# Altium schematic symbol library RFID_SchLib.SchLib: 30 symbols
Pins are listed as number, name and electrical type; pins without a type are passive.

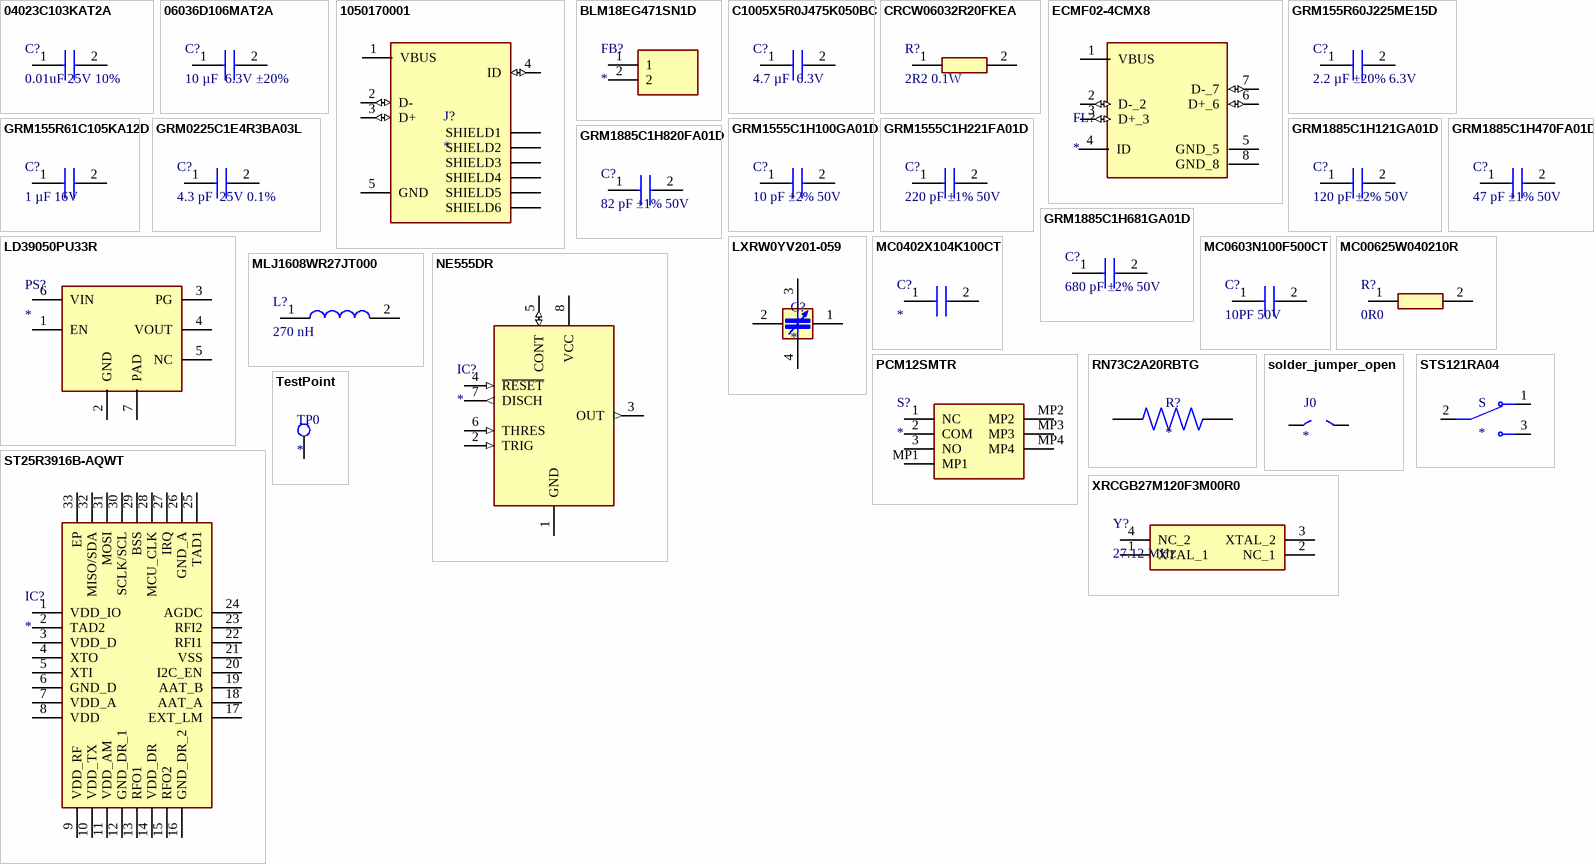
[diagram p0: symbols 04023C103KAT2A to XRCGB27M120F3M00R0]

## 04023C103KAT2A
designator C?, comment 0.01uF 25V 10%
Multilayer Ceramic Capacitors MLCC - SMD/SMT KGM05AR71E103KH NEW GLOBAL PN 25V 0.01uF A 581-KGM05AR71E103KH; Manufacturer_Name: Kyocera AVX; Manufacturer_Part_Number: 04023C103KAT2A; Datasheet Link: http://www.mouser.com/catalog/supplier/library/pdf/AVXSurfaceMountCeramic.pdf; Height: 0.56mm; Mouser Part Number: 581-04023C103KAT2A; Mouser Price/Stock: https://www.mouser.co.uk/ProductDetail/KYOCERA-AVX/04023C103KAT2A?qs=WqWZ2R3c%2Ff%2Fj0R0hKkmxig%3D%3D; Arrow Part Number: 04023C103KAT2A; Arrow Price/Stock: https://www.arrow.com/en/products/04023c103kat2a/avx?region=nac
footprint CAPC1005X56N
pins: 1, 2

## 06036D106MAT2A
designator C?, comment 10 µF  6.3V ±20%
10 µF ±20% 6.3V Ceramic Capacitor X5R 0603 (1608 Metric); Manufacturer_Name: Kyocera AVX; Manufacturer_Part_Number: 06036D106MAT2A; Datasheet Link: https://componentsearchengine.com/Datasheets/1/06031A100FAT2A.pdf; Height: 0.9mm; Mouser Part Number: 581-06036D106MAT2A; Mouser Price/Stock: https://www.mouser.co.uk/ProductDetail/KYOCERA-AVX/06036D106MAT2A?qs=SnLCPPi%2FUkQWQ97wPZ%2F8XA%3D%3D; Arrow Part Number: 06036D106MAT2A; Arrow Price/Stock: https://www.arrow.com/en/products/06036d106mat2a/avx?region=nac
footprint CAPC1608X90N
pins: 1, 2

## 1050170001
designator J?
USB - micro B USB 2.0 Receptacle Connector 5 Position Surface Mount, Right Angle; Through Hole; MF: Molex; MP: 1050170001; SnapEDA_Link: https://www.snapeda.com/parts/1050170001/Molex/view-part/?ref=snap; Package: None; Value: *; Check_prices: https://www.snapeda.com/parts/1050170001/Molex/view-part/?ref=eda
footprint MOLEX_1050170001
pins: 1 VBUS (power), 2 D- (io), 3 D+ (io), 4 ID (io), 5 GND (power), SH1 SHIELD1, SH2 SHIELD2, SH3 SHIELD3, SH4 SHIELD4, SH5 SHIELD5, SH6 SHIELD6

## BLM18EG471SN1D
designator FB?
Ferrite Bead; Manufacturer_Name: Murata Electronics; Manufacturer_Part_Number: BLM18EG471SN1D; Datasheet Link: http://www.murata.com/~/media/webrenewal/support/library/catalog/products/emc/emifil/c31e.ashx?la=en-gb; Height: 0.95mm; Mouser Part Number: 81-BLM18EG471SN1D; Mouser Price/Stock: https://www.mouser.co.uk/ProductDetail/Murata-Electronics/BLM18EG471SN1D?qs=8BCRtFWWXORfSKN8qJ8lTg%3D%3D; Arrow Part Number: BLM18EG471SN1D; Arrow Price/Stock: https://www.arrow.com/en/products/blm18eg471sn1d/murata-manufacturing?region=nac
footprint BLM18SP221SN1B
footprint Model Name (Model Description)
pins: 1, 2

## C1005X5R0J475K050BC
designator C?, comment 4.7 µF  6.3V
4.7 µF ±10% 6.3V Ceramic Capacitor X5R 0402 (1005 Metric); Manufacturer_Name: TDK; Manufacturer_Part_Number: C1005X5R0J475K050BC; Datasheet Link: https://product.tdk.com/info/en/catalog/datasheets/mlcc_commercial_midvoltage_en.pdf; Height: 0.55mm; Mouser Part Number: 810-C1005X5R0J475K; Mouser Price/Stock: https://www.mouser.co.uk/ProductDetail/TDK/C1005X5R0J475K050BC?qs=NRhsANhppD%2FrOmlfBttPRA%3D%3D; Arrow Part Number: C1005X5R0J475K050BC; Arrow Price/Stock: https://www.arrow.com/en/products/c1005x5r0j475k050bc/tdk?region=nac
footprint CAPC1005X55N
pins: 1, 2

## CRCW06032R20FKEA
designator R?, comment 2R2 0.1W
2.2 Ohms ±1% 0.1W, 1/10W Chip Resistor 0603 (1608 Metric) Automotive AEC-Q200 Thick Film; Manufacturer_Name: Vishay; Manufacturer_Part_Number: CRCW06032R20FKEA; Datasheet Link: http://www.vishay.com/docs/20035/dcrcwe3.pdf; Height: 0.5mm; Mouser Part Number: 71-CRCW0603-2.2-E3; Mouser Price/Stock: https://www.mouser.co.uk/ProductDetail/Vishay-Dale/CRCW06032R20FKEA?qs=rWmqDOB7XyjYuLjFkhSPbQ%3D%3D; Arrow Part Number: CRCW06032R20FKEA; Arrow Price/Stock: https://www.arrow.com/en/products/crcw06032r20fkea/vishay
footprint RESC1608X50N
pins: 1, 2

## ECMF02-4CMX8
designator FL?
2 Line Common Mode Choke Surface Mount DCR 4Ohm; MF: STMicroelectronics; MP: ECMF02-4CMX8; SnapEDA_Link: https://www.snapeda.com/parts/ECMF02-4CMX8/STMicroelectronics/view-part/?ref=snap; Package: UFDFN-8 STMicroelectronics; Value: *; Check_prices: https://www.snapeda.com/parts/ECMF02-4CMX8/STMicroelectronics/view-part/?ref=eda
footprint FIL_ECMF02-4CMX8
pins: 1 VBUS (power), 2 D-_2 (io), 3 D+_3 (io), 4 ID, 5 GND_5 (power), 6 D+_6 (io), 7 D-_7 (io), 8 GND_8 (power)

## GRM155R60J225ME15D
designator C?, comment 2.2 µF ±20% 6.3V
2.2 µF ±20% 6.3V Ceramic Capacitor X5R 0402 (1005 Metric); Manufacturer_Name: Murata Electronics; Manufacturer_Part_Number: GRM155R60J225ME15D; Datasheet Link: http://www.murata.com/~/media/webrenewal/support/library/catalog/products/capacitor/mlcc/c02e.pdf; Height: 0.7mm; Mouser Part Number: 81-GRM155R60J225ME5D; Mouser Price/Stock: https://www.mouser.co.uk/ProductDetail/Murata-Electronics/GRM155R60J225ME15D?qs=AgWb9queBCikwePqS2A9xg%3D%3D; Arrow Part Number: GRM155R60J225ME15D; Arrow Price/Stock: https://www.arrow.com/en/products/grm155r60j225me15d/murata-manufacturing
footprint CAPC1005X70N
pins: 1, 2

## GRM155R61C105KA12D
designator C?, comment 1 µF 16V
1 µF ±10% 16V Ceramic Capacitor X5R 0402 (1005 Metric); Manufacturer_Name: Murata Electronics; Manufacturer_Part_Number: GRM155R61C105KA12D; Datasheet Link: https://search.murata.co.jp/Ceramy/image/img/A01X/G101/ENG/GRM155R61C105KA12-01A.pdf; Height: 0.7mm; Mouser Part Number: 81-GRM155R61C105KA2D; Mouser Price/Stock: https://www.mouser.co.uk/ProductDetail/Murata-Electronics/GRM155R61C105KA12D?qs=MNX0Jdkv8mRzFdIwfsySnw%3D%3D; Arrow Part Number: GRM155R61C105KA12D; Arrow Price/Stock: https://www.arrow.com/en/products/grm155r61c105ka12d/murata-manufacturing?region=europe
footprint CAPC1005X70N
pins: 1, 2

## GRM0225C1E4R3BA03L
designator C?, comment 4.3 pF  25V 0.1%
4.3 pF ±0.1pF 25V Ceramic Capacitor C0G, NP0 01005 (0402 Metric); Manufacturer_Name: Murata Electronics; Manufacturer_Part_Number: GRM0225C1E4R3BA03L; Datasheet Link: https://search.murata.co.jp/Ceramy/image/img/A01X/G101/ENG/GRM0225C1E4R3BA03-01A.pdf; Height: 0.22mm; Mouser Part Number: 81-GRM0225C1E4R3BA3L; Mouser Price/Stock: https://www.mouser.co.uk/ProductDetail/Murata-Electronics/GRM0225C1E4R3BA03L?qs=qkDYIeTQ%252BEmjiQZIknqn1g%3D%3D; Arrow Part Number: GRM0225C1E4R3BA03L; Arrow Price/Stock: https://www.arrow.com/en/products/grm0225c1e4r3ba03l/murata-manufacturing?region=nac
footprint GRM022C81C222KE01L
pins: 1, 2

## GRM1555C1H100GA01D
designator C?, comment 10 pF ±2% 50V
10 pF ±2% 50V Ceramic Capacitor C0G, NP0 0402 (1005 Metric); Manufacturer_Name: Murata Electronics; Manufacturer_Part_Number: GRM1555C1H100GA01D; Datasheet Link: https://search.murata.co.jp/Ceramy/image/img/A01X/G101/ENG/GRM1555C1H100GA01-01A.pdf; Height: 0.7mm; Mouser Part Number: 81-GRM1555C1H100GA1D; Mouser Price/Stock: https://www.mouser.co.uk/ProductDetail/Murata-Electronics/GRM1555C1H100GA01D?qs=ouTquLLW2S7d2foNxe9pRA%3D%3D; Arrow Part Number: GRM1555C1H100GA01D; Arrow Price/Stock: https://www.arrow.com/en/products/grm1555c1h100ga01d/murata-manufacturing?region=nac
footprint CAPC1005X70N
pins: 1, 2

## GRM1555C1H221FA01D
designator C?, comment 220 pF ±1% 50V
220 pF ±1% 50V Ceramic Capacitor C0G, NP0 0402 (1005 Metric); Manufacturer_Name: Murata Electronics; Manufacturer_Part_Number: GRM1555C1H221FA01D; Datasheet Link: https://search.murata.co.jp/Ceramy/image/img/A01X/G101/ENG/GRM1555C1H221FA01-01A.pdf; Height: 0.7mm; Mouser Part Number: 81-GRM1555C1H221FA1D; Arrow Part Number: GRM1555C1H221FA01D; Arrow Price/Stock: https://www.arrow.com/en/products/grm1555c1h221fa01d/murata-manufacturing
footprint CAPC1005X70N
pins: 1, 2

## GRM1885C1H121GA01D
designator C?, comment 120 pF ±2% 50V
120 pF ±2% 50V Ceramic Capacitor C0G, NP0 0603 (1608 Metric); Manufacturer_Name: Murata Electronics; Manufacturer_Part_Number: GRM1885C1H121GA01D; Datasheet Link: https://search.murata.co.jp/Ceramy/image/img/A01X/G101/ENG/GRM1885C1H121GA01-01A.pdf; Height: 0.9mm; Mouser Part Number: 81-GRM185C1H121GA01D; Mouser Price/Stock: https://www.mouser.co.uk/ProductDetail/Murata-Electronics/GRM1885C1H121GA01D?qs=yqgo%2FhMvSnKL2%2FsNGIMp6A%3D%3D; Arrow Part Number: GRM1885C1H121GA01D; Arrow Price/Stock: https://www.arrow.com/en/products/grm1885c1h121ga01d/murata-manufacturing?region=nac
footprint CAPC1608X90N
pins: 1, 2

## GRM1885C1H470FA01D
designator C?, comment 47 pF ±1% 50V
47 pF ±1% 50V Ceramic Capacitor C0G, NP0 0603 (1608 Metric); Manufacturer_Name: Murata Electronics; Manufacturer_Part_Number: GRM1885C1H470FA01D; Datasheet Link: https://datasheet.datasheetarchive.com/originals/distributors/Datasheets_SAMA/ec4f1577dddcc7a13ddad897a28002d3.pdf; Height: 0.9mm; Mouser Part Number: 81-GRM39C470F50; Mouser Price/Stock: https://www.mouser.co.uk/ProductDetail/Murata-Electronics/GRM1885C1H470FA01D/?qs=uFJkqF3uSG511JiOAsIRVA%3D%3D
footprint CAPC1608X90N
pins: 1, 2

## GRM1885C1H681GA01D
designator C?, comment 680 pF ±2% 50V
680 pF ±2% 50V Ceramic Capacitor C0G, NP0 0603 (1608 Metric); Manufacturer_Name: Murata Electronics; Manufacturer_Part_Number: GRM1885C1H681GA01D; Datasheet Link: https://search.murata.co.jp/Ceramy/image/img/A01X/G101/ENG/GRM1885C1H681GA01-01A.pdf; Height: 0.9mm; Mouser Part Number: 81-GRM1885C1H681GA1D; Mouser Price/Stock: https://www.mouser.co.uk/ProductDetail/Murata-Electronics/GRM1885C1H681GA01D?qs=buahJja4tP76sGfXSP1Niw%3D%3D; Arrow Part Number: GRM1885C1H681GA01D; Arrow Price/Stock: https://www.arrow.com/en/products/grm1885c1h681ga01d/murata-manufacturing?region=nac
footprint CAPC1608X90N
pins: 1, 2

## GRM1885C1H820FA01D
designator C?, comment 82 pF ±1% 50V
82 pF ±1% 50V Ceramic Capacitor C0G, NP0 0603 (1608 Metric); Manufacturer_Name: Murata Electronics; Manufacturer_Part_Number: GRM1885C1H820FA01D; Height: 0.9mm; Mouser Part Number: 81-GRM39C820F50; Mouser Price/Stock: https://www.mouser.co.uk/ProductDetail/Murata-Electronics/GRM1885C1H820FA01D?qs=TDajEmxY43oblblXAMHKvQ%3D%3D; Arrow Part Number: GRM1885C1H820FA01D; Arrow Price/Stock: https://www.arrow.com/en/products/grm1885c1h820fa01d/murata-manufacturing?region=nac
footprint CAPC1608X90N
pins: 1, 2

## LD39050PU33R
designator PS?
Power Supply; Manufacturer_Name: STMicroelectronics; Manufacturer_Part_Number: LD39050PU33R; Datasheet Link: https://componentsearchengine.com/Datasheets/2/LD39050PU33R.pdf; Height: 1mm; Mouser Part Number: 511-LD39050PU33R; Mouser Price/Stock: https://www.mouser.co.uk/ProductDetail/STMicroelectronics/LD39050PU33R?qs=5HwTSiuA5HCrgw9sKi%2FGcQ%3D%3D; Arrow Part Number: LD39050PU33R; Arrow Price/Stock: https://www.arrow.com/en/products/ld39050pu33r/stmicroelectronics?utm_currency=USD&region=nac
footprint SON95P300X300X100-7N-D
pins: 1 EN, 2 GND (power), 3 PG, 4 VOUT (power), 5 NC, 6 VIN (power), 7 PAD (power)

## LXRW0YV201-059
designator C?
100 ~ 200pF Trimmer Capacitor 50 V Top Surface Mount; MF: Murata Electronics; MP: LXRW0YV201-059; SnapEDA_Link: https://www.snapeda.com/parts/LXRW0YV201-059/Murata/view-part/?ref=snap; Package: None; Value: *; Check_prices: https://www.snapeda.com/parts/LXRW0YV201-059/Murata/view-part/?ref=eda; Manufacturer Name: *
footprint CAPV_LXRW0YV201-059
pins: 1 GND (power), 2 VT, 3 PORT1, 4 PORT2

## MC0402X104K100CT
designator C?
Capacitor; Manufacturer_Name: Multicomp Pro; Manufacturer_Part_Number: MC0402X104K100CT; Description: MULTICOMP - MC0402X104K100CT - SMD Multilayer Ceramic Capacitor; Datasheet Link: https://componentsearchengine.com/Datasheets/5/MC0402X104K100CT.pdf; Height: 0.55mm
footprint CAPC1005X55N
pins: 1, 2

## MC0603N100F500CT
designator C?, comment 10PF 50V
CERAMIC CAPACITOR 10PF 50V, C0G, 1%, 0603; Manufacturer_Name: Multicomp Pro; Manufacturer_Part_Number: MC0603N100F500CT; Datasheet Link: https://4donline.ihs.com/images/VipMasterIC/IC/SCMP/SCMP-S-A0009258786/SCMP-S-A0009258786-1.pdf?hkey=6D3A4C79FDBF58556ACFDE234799DDF0; Height: 0.87mm
footprint CAPC1608X87N
pins: 1, 2

## MC00625W040210R
designator R?, comment 0R0
Zero Ohm Resistor, Jumper, 0402 [1005 Metric], Thick Film, 62.5 mW, 1 A, Surface Mount Device; Manufacturer_Name: Multicomp Pro; Manufacturer_Part_Number: MC00625W040210R; Datasheet Link: https://componentsearchengine.com/Datasheets/2/MC00625W040210R.pdf; Height: 0.4mm
footprint RESC1005X40N
pins: 1, 2

## MLJ1608WR27JT000
designator L?, comment 270 nH
270 nH Shielded Multilayer Inductor 550 mA 286mOhm Max 0603 (1608 Metric); Manufacturer_Name: TDK; Manufacturer_Part_Number: MLJ1608WR27JT000; Datasheet Link: https://product.tdk.com/system/files/dam/doc/product/inductor/inductor/smd/catalog/inductor_commercial_standard_mlj1608_en.pdf; Height: 0.95mm; Mouser Part Number: 810-MLJ1608WR27JT000; Mouser Price/Stock: https://www.mouser.co.uk/ProductDetail/TDK/MLJ1608WR27JT000?qs=XFe3dyCRgQjWReJUSn7JRQ%3D%3D; Arrow Part Number: MLJ1608WR27JT000; Arrow Price/Stock: null?region=nac
footprint INDC1608X95N
pins: 1, 2

## NE555DR
designator IC?
Integrated Circuit; Manufacturer_Name: Texas Instruments; Manufacturer_Part_Number: NE555DR; Datasheet Link: http://www.ti.com/lit/ds/symlink/ne555.pdf; Height: 1.75mm; Mouser Part Number: 595-NE555DR; Mouser Price/Stock: https://www.mouser.com/Search/Refine.aspx?Keyword=595-NE555DR; RS Part Number: 1218414; RS Price/Stock: http://uk.rs-online.com/web/p/products/1218414
footprint SOIC127P600X175-8N
pins: 1 GND (power), 2 TRIG (in), 3 OUT (out), 4 ~{RESET} (in), 5 CONT (io), 6 THRES (in), 7 DISCH (out), 8 VCC (power)

## PCM12SMTR
designator S?
Switch; Manufacturer_Name: C & K COMPONENTS; Manufacturer_Part_Number: PCM12SMTR; Datasheet Link: https://www.ckswitches.com/media/1424/pcm.pdf; Height: 1.4mm; Mouser Part Number: 611-PCM12SMTR; Mouser Price/Stock: https://www.mouser.co.uk/ProductDetail/CK/PCM12SMTR?qs=mfFuHy8STfL3qrPSfCHA7w%3D%3D; Arrow Part Number: PCM12SMTR; Arrow Price/Stock: https://www.arrow.com/en/products/pcm12smtr/ck?region=nac
footprint PCM12SMTR
pins: 1 NC, 2 COM, 3 NO, MP1, MP2, MP3, MP4

## RN73C2A20RBTG
designator R?
Res Thin Film 0805 20 Ohm 0.1% 1/10W Â±10ppm/Â°C Molded SMD SMD Paper T/R; MP: RN73C2A20RBTG; Package: None; Price: None; Value: *; Availability: Unavailable
footprint RESC2012X65N
pins: 1, 2

## solder_jumper_open
designator J0  (net tie, no BOM)
solder_jumper_open
footprint solder_jumper_open
pins: 1, 2

## ST25R3916B-AQWT
designator IC?
Integrated Circuit; Manufacturer_Name: STMicroelectronics; Manufacturer_Part_Number: ST25R3916B-AQWT; Datasheet Link: https://www.st.com/resource/en/datasheet/st25r3916b.pdf; Height: 1mm; Mouser Part Number: 511-ST25R3916B-AQWT; Mouser Price/Stock: https://www.mouser.co.uk/ProductDetail/STMicroelectronics/ST25R3916B-AQWT?qs=Znm5pLBrcAK6gbJpvnT4Gw%3D%3D; Arrow Part Number: ST25R3916B-AQWT; Arrow Price/Stock: https://www.arrow.com/en/products/st25r3916b-aqwt/stmicroelectronics?utm_currency=USD&region=nac
footprint QFN50P500X500X100-33N-D
pins: 1 VDD_IO, 2 TAD2, 3 VDD_D, 4 XTO, 5 XTI, 6 GND_D, 7 VDD_A, 8 VDD, 9 VDD_RF, 10 VDD_TX, 11 VDD_AM, 12 GND_DR_1, 13 RFO1, 14 VDD_DR, 15 RFO2, 16 GND_DR_2, 17 EXT_LM, 18 AAT_A, 19 AAT_B, 20 I2C_EN, 21 VSS, 22 RFI1, 23 RFI2, 24 AGDC, 25 TAD1, 26 GND_A, 27 IRQ, 28 MCU_CLK, 29 BSS, 30 SCLK/SCL, 31 MOSI, 32 MISO/SDA, 33 EP

## STS121RA04
designator S
Slide Switch SPDT Through Hole, Right Angle; MP: STS121RA04; MF: TE Connectivity; Price: None; SnapEDA_Link: https://www.snapeda.com/parts/STS121RA04/TE%20Connectivity%20ALCOSWITCH%20Switches/view-part/493292/?ref=snap; Availability: Unavailable; Mouser-Purchase-URL: https://snapeda.com/shop?store=Mouser&id=493292; Value: *; Package: None
footprint TE_STS121RA04
pins: 1, 2, 3

## TestPoint
designator TP0  (no BOM)
TestPoint; value: *
footprint TestPoint
pins: ?1 "TestPoint"

## XRCGB27M120F3M00R0
designator Y?, comment 27.12 MHz
27.12 MHz ±30ppm Crystal 6pF 150 Ohms 4-SMD, No Lead; Manufacturer_Name: Murata Electronics; Manufacturer_Part_Number: XRCGB27M120F3M00R0; Datasheet Link: https://www.murata.com/products/productdata/8801062879262/SPEC-XRCGB27M120F3M00R0.pdf; Height: 0.7mm; Mouser Part Number: 81-XRCGB27M120F3M0R0; Mouser Price/Stock: https://www.mouser.co.uk/ProductDetail/Murata-Electronics/XRCGB27M120F3M00R0?qs=e%252BE4OD6MgMfl8qhJDYq%252BAg%3D%3D; Arrow Part Number: XRCGB27M120F3M00R0; Arrow Price/Stock: https://www.arrow.com/en/products/xrcgb27m120f3m00r0/murata-manufacturing?region=nac
footprint XRCGB
pins: 1 XTAL_1, 2 NC_1, 3 XTAL_2, 4 NC_2